# Altium schematic symbol library ADM706SARZ-REEL.SchLib: 1 symbol
Pins are listed as number, name and electrical type; pins without a type are passive.

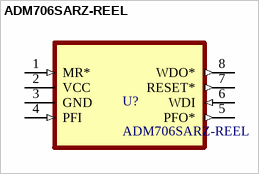
[diagram p0: symbol ADM706SARZ-REEL]

## ADM706SARZ-REEL
designator U?
Supervisor Push-Pull, Totem Pole 1 Channel 8-SOIC; MF: Analog Devices; MP: ADM706SARZ-REEL; Package: SOIC-8 Analog Devices; Value: *; SnapEDA_Link: https://www.snapeda.com/parts/ADM706SARZ-REEL/Analog+Devices/view-part/?ref=snap; Digi-Key_Part_Number: ADM706SARZ-REELCT-ND; Check_prices: https://www.snapeda.com/parts/ADM706SARZ-REEL/Analog+Devices/view-part/?ref=eda; Purchase-URL: https://pricing.snapeda.com/search/part/ADM706SARZ-REEL/?ref=eda; Supplier 1: Digi-Key; Supplier 2: Arrow Electronics; Supplier 3: Mouser; Supplier Part Number 1: ADM706SARZ-REELCT-ND; Supplier Part Number 2: ADM706SARZ-REEL; Supplier Part Number 3: 584-ADM706SARZ-R
footprint SOIC127P600X175-8N (SOIC, 8-Leads, Body 4.91x3.95mm, Pitch 1.27mm, IPC Medium Density)
pins: 1 MR* (in), 2 VCC (power), 3 GND, 4 PFI (in), 5 PFO* (out), 6 WDI (in), 7 RESET* (out), 8 WDO* (out)